# EAGLE library part 8P_HEADER (library TRISThisConnectors)
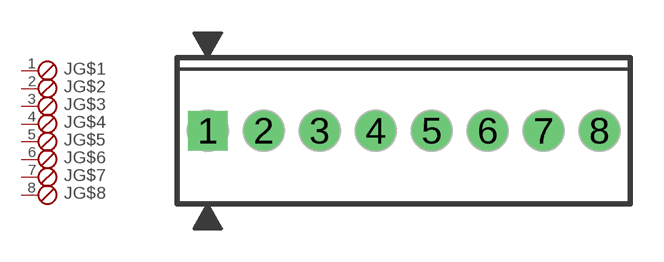
[diagram p1: symbol with the pads of 8POL254; footprint 8POL254]

Designator prefix J; gates G$1=SKB G$2=SKB G$3=SKB G$4=SKB G$5=SKB G$6=SKB G$7=SKB G$8=SKB

## 8P_HEADER  [8POL254]
1  G$1:1  pas
2  G$2:1  pas
3  G$3:1  pas
4  G$4:1  pas
5  G$5:1  pas
6  G$6:1  pas
7  G$7:1  pas
8  G$8:1  pas

## Footprint 8POL254 (pad centres in mm)
drill 1.2 square: 1 -8.89,0
drill 1.2 round: 2 -6.35,0; 3 -3.81,0; 4 -1.27,0; 5 1.27,0; 6 3.81,0; 7 6.35,0; 8 8.89,0